# EAGLE library part MITSUMI_3325A (library dslparts)
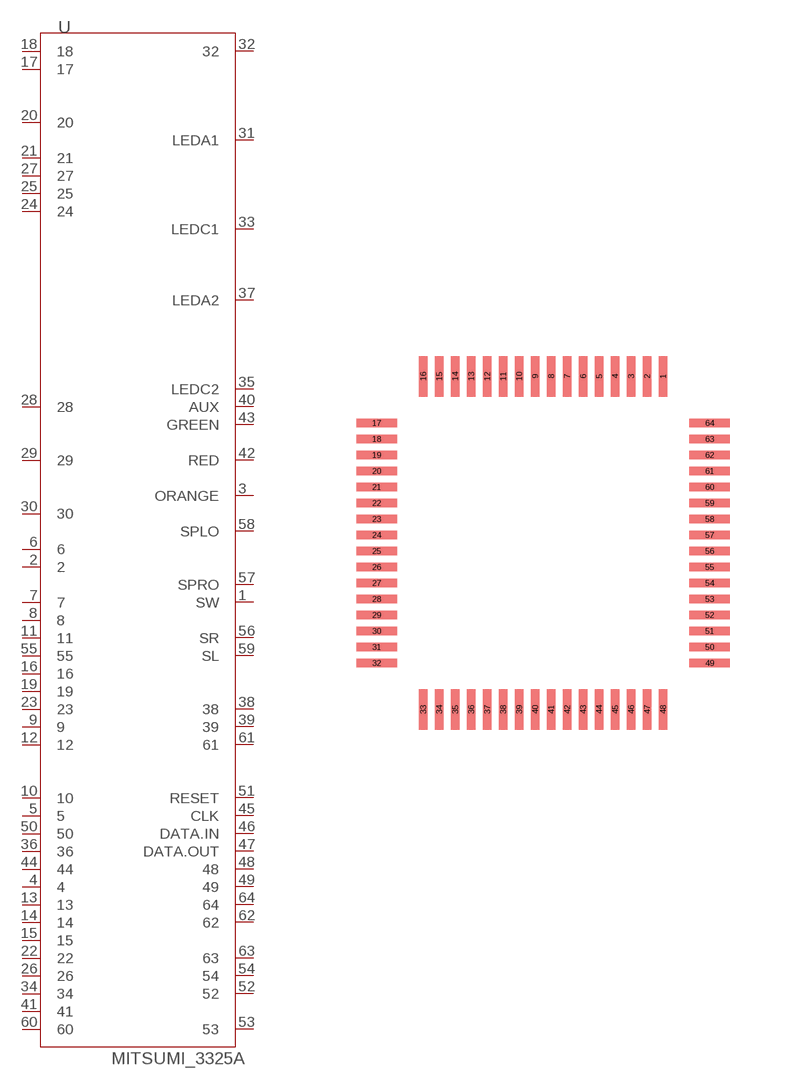
[diagram p8: symbol with the pads of MITSUMI_3325A; footprint MITSUMI_3325A]

Designator prefix -

## MITSUMI_3325A  [MITSUMI_3325A]
1  SW
2  2
3  ORANGE
4  4
5  5
6  6
7  7
8  8
9  9
10  10
11  11
12  12
13  13
14  14
15  15
16  16
17  17
18  18
19  19
20  20
21  21
22  22
23  23
24  24
25  25
26  26
27  27
28  28
29  29
30  30
31  LEDA1
32  32
33  LEDC1
34  34
35  LEDC2
36  36
37  LEDA2
38  38
39  39
40  AUX
41  41
42  RED
43  GREEN
44  44
45  CLK
46  DATA.IN
47  DATA.OUT
48  48
49  49
50  50
51  RESET
52  52
53  53
54  54
55  55
56  SR
57  SPRO
58  SPLO
59  SL
60  60
61  61
62  62
63  63
64  64

## Footprint MITSUMI_3325A (pad centres in mm)
smd 0.203 x 1.016: 1 3,4.166; 2 2.6,4.166; 3 2.2,4.166; 4 1.8,4.166; 5 1.4,4.166; 6 1,4.166; 7 0.6,4.166; 8 0.2,4.166; 9 -0.2,4.166; 10 -0.6,4.166; 11 -1,4.166; 12 -1.4,4.166; 13 -1.8,4.166; 14 -2.2,4.166; 15 -2.6,4.166; 16 -3,4.166; 33 -3,-4.166; 34 -2.6,-4.166; 35 -2.2,-4.166; 36 -1.8,-4.166; 37 -1.4,-4.166; 38 -1,-4.166; 39 -0.6,-4.166; 40 -0.2,-4.166; 41 0.2,-4.166; 42 0.6,-4.166; 43 1,-4.166; 44 1.4,-4.166; 45 1.8,-4.166; 46 2.2,-4.166; 47 2.6,-4.166; 48 3,-4.166
smd 1.016 x 0.203: 17 -4.166,3; 18 -4.166,2.6; 19 -4.166,2.2; 20 -4.166,1.8; 21 -4.166,1.4; 22 -4.166,1; 23 -4.166,0.6; 24 -4.166,0.2; 25 -4.166,-0.2; 26 -4.166,-0.6; 27 -4.166,-1; 28 -4.166,-1.4; 29 -4.166,-1.8; 30 -4.166,-2.2; 31 -4.166,-2.6; 32 -4.166,-3; 49 4.166,-3; 50 4.166,-2.6; 51 4.166,-2.2; 52 4.166,-1.8; 53 4.166,-1.4; 54 4.166,-1; 55 4.166,-0.6; 56 4.166,-0.2; 57 4.166,0.2; 58 4.166,0.6; 59 4.166,1; 60 4.166,1.4; 61 4.166,1.8; 62 4.166,2.2; 63 4.166,2.6; 64 4.166,3